# Altium integrated library OASIS_COMPONENTS.IntLib: 56 symbols
Pins are listed as number, name and electrical type; pins without a type are passive.

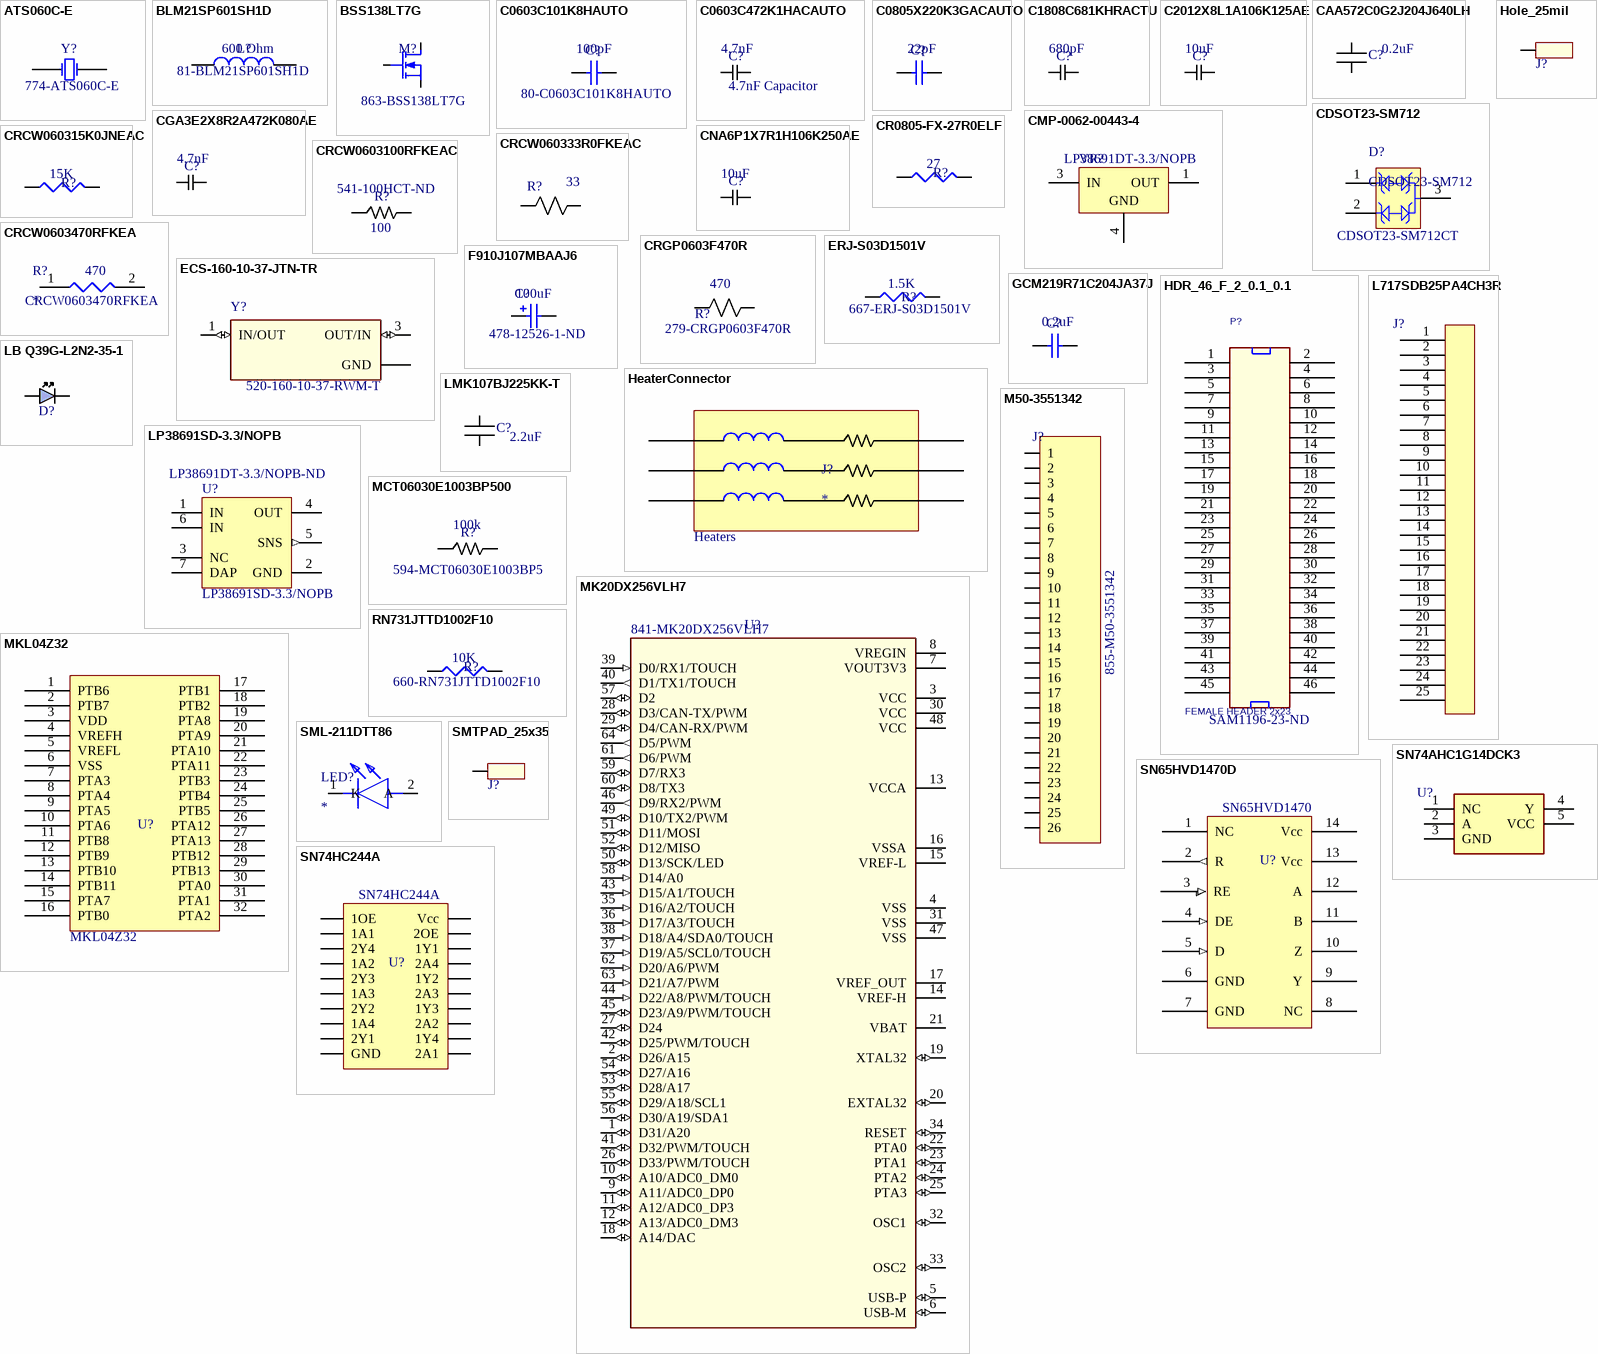
[diagram p0: symbols ATS060C-E to SN74HC244A]

## ATS060C-E
designator Y?, comment Supplier Part Number 1: 774-ATS060C-E  (hidden comment: 6MHz crystal)
6MHz Crystal Oscillator for TUSB IC.; Published: 8-Jun-2000; LatestRevisionDate: 17-Jul-2002; LatestRevisionNote: Re-released for DXP Platform.; PackageReference: R38; Publisher: Altium Limited; PackageDescription: Crystal, Thru-Hole; 2 Leads; Body 3.1 x 8.2 mm (Dia.xH); Supplier 1: Mouser
footprint HC-49/US T/H Crystal
pins: 1 OSC1, 2 OSC2

## BLM21SP601SH1D
designator L?, comment value 600 Ohm  Supplier Part Number 1: 81-BLM21SP601SH1D  (hidden comment: Ferritde, 600 Ohm Impedence)
Ferrite Bead, 600 Ohm Impedence for TLC; Supplier 1: Mouser
simulation model Model Name (Model Description)
footprint Imperial0805_RES (Imperial 0805 Resistor)
pins: 1, 2

## BSS138LT7G
designator M?  Supplier Part Number 1: 863-BSS138LT7G  (hidden comment: BSS138LT7G)
N-MOSFET for logic level switching; Supplier 1: Mouser
footprint SOT95P245X110-3N (SOT23, 3-Leads, Body 2.92x2.45mm, Pitch 0.95mm, IPC Medium Density)
pins: 1 G, 2 S, 3 D

## C0603C101K8HAUTO
designator C?, comment value 100pF  Supplier Part Number 1: 80-C0603C101K8HAUTO  (hidden comment: 100pF Capacitor)
100pF Cap for IC Vcc Smoothing; Published: 8-Jun-2000; LatestRevisionDate: 29-May-2009; LatestRevisionNote: IPC-7351 Footprint Added.; PackageReference: C1206; Publisher: Altium Limited; PackageDescription: Chip Capacitor; Supplier 1: Mouser
simulation model CAP (Semiconductor Capacitor)
signal-integrity model Cap Semi
footprint IMPERIAL0603_Capacitor
pins: 1, 2

## C0603C472K1HACAUTO
designator C?, comment 4.7nF Capacitor  value 4.7nF
4700 pF capacitor for 48v converter emi filtering; Supplier 1: Mouser; Supplier Part Number 1: 80-C0603C472K1HAUTO
footprint IMPERIAL0603_Capacitor
pins: 1, 2

## C0805X220K3GACAUTO
designator C?, comment value 22pF  (hidden comment: 22pF capacitor)
22pF USB Filter Capacitor; Published: 8-Jun-2000; LatestRevisionDate: 29-May-2009; LatestRevisionNote: IPC-7351 Footprint Added.; PackageReference: C1206; Publisher: Altium Limited; PackageDescription: Chip Capacitor; Supplier 1: Digi-Key; Supplier Part Number 1: 399-19450-1-ND
simulation model CAP (Semiconductor Capacitor)
signal-integrity model Cap Semi
footprint IMPERIAL0805_CAPACITOR (Chip Capacitor, 2-Leads, Body 2.13x1.27mm, IPC Medium Density)
pins: 1, 2

## C1808C681KHRACTU
designator C?, comment value 680pF  (hidden comment: 680pF Cap)
680pF Cap for EMI suppresion on 5V regulator; Supplier 1: Mouser; Supplier Part Number 1: 80-C1808C681KHR
footprint Imperial1808_CAP (Imperial 1808 chip capacitor)
pins: 1, 2

## C2012X8L1A106K125AE
designator C?, comment value 10uF  (hidden comment: 10uF Capacitor)
10 uF Capacitor; Supplier Part Number: C2012X8L1A106K125AE
footprint IMPERIAL0805_CAPACITOR (Chip Capacitor, 2-Leads, Body 2.13x1.27mm, IPC Medium Density)
simulation model CAP (Default semiconductor capacitor)
pins: 1, 2

## CAA572C0G2J204J640LH
designator C?, comment value 0.2uF  (hidden comment: 0.2uF Capactor, high voltage)
0.2uF capacitor, high voltage; Supplier 1: Digi-Key; Supplier Part Number 1: 445-180360-1-ND
footprint CAA572C0G2J204J640LH (2220 Footprint for CAA572C0G2J204J640LH)
pins: 1, 2

## CDSOT23-SM712
designator D?  Other Names: CDSOT23-SM712CT
TVS Diode, 17 A Ipp, -55 to 150 degC, 3-Pin SOT23, RoHS, Tape and Reel; Manufacturer: Bourns; Catalog Drawings: CDSOT23-SM712Schematic; Current - Peak Pulse (10/1000µs): 17A(8/20µs); Voltage - Breakdown (Min): 7.5V,13.3V; Online Catalog: CDSOT23Series; Power Line Protection: No; Bidirectional Channels: 2; Type: Zener; For Use With: EVAL-CN0313-SDPZ-ND-EVALEMCRS-485CERTIFIED; Kits: PN-DESIGNKIT-22-ND-KITESD/EFTSURGEPROTECTION; Capacitance @ Frequency: 75pF@1MHz; Product Training Modules: ESDProtectionProducts; Voltage - Clamping (Max) @ Ipp: 14V,26V; Voltage - Reverse Standoff (Typ): 7V(Max),12V(Max); Related Products: ADM3485EARZ-REEL7TR-ND-ICTXRXRS-485HS3.3V8SOICADM3485EARZ-REEL7CT-ND-ICTXRXRS-485HS3.3V8SOICADM3485EARZ-REEL7DKR-ND-ICTXRXRS-485HS3.3V8SOICADM3485EARZ-ND-ICTX/RXRS-485HS3.3V8-SOICADM3485EAR-ND-ICTX/RXRS-485HS3.3V8-SOIC296-38503-5-ND-ICTXRXRS4853.3VESD14SOIC296-38501-5-ND-ICRS485TXRX3.3ESD8SOIC296-38522-5-ND-ICTXRXRS4853.3V14SOIC296-38502-5-ND-ICTXRXRS4853.3VESD14SOICADM3485EARZ-REELTR-ND-ICTXRXRS-4853.3V8SOICADM3485EARZ-REELCT-ND-ICTXRXRS-4853.3V8SOICADM3485EARZ-REELDKR-ND-ICTXRXRS-4853.3V8SOIC296-40517-2-ND-ICTXRXRS4853.3V14SOIC296-40517-1-ND-ICTXRXRS4853.3V14SOIC296-40517-6-ND-ICTXRXRS4853.3V14SOIC296-40519-2-ND-ICRS485TXRX3.3ESD8SOIC296-40519-1-ND-ICRS485TXRX3.3ESD8SOIC296-40519-6-ND-ICRS485TXRX3.3ESD8SOIC296-40524-2-ND-ICTXRXRS4853.3VESD8SOIC296-40524-1-ND-ICTXRXRS4853.3VESD8SOIC296-40524-6-ND-ICTXRXRS4853.3VESD8SOIC296-40522-2-ND-ICTXRXRS4853.3VESD14SOIC296-40522-1-ND-ICTXRXRS4853.3VESD14SOIC296-40522-6-ND-ICTXRXRS4853.3VESD14SOIC296-40529-2-ND-ICRS485TXRX3.3ESD8SOIC296-40529-1-ND-ICRS485TXRX3.3ESD8SOIC2; Power - Peak Pulse: 400W; Applications: GeneralPurpose; Supplier Device Package: SOT-23-3; Package / Case: TO-236-3,SC-59,SOT-23-3; Mounting Type: SurfaceMount; Datasheet URL: https://datasheet.ciiva.com/11193/cdsot23-sm712-11193846.pdf; Standard Package: 1; Series: -; Category: CircuitProtection; Unidirectional Channels: -; Package Description: 3-Lead Small Out-Line Transistor, Body 2.9x1.3mm, Pitch 0.95mm; Family: TVS-Diodes; Datasheet Version: Aug-12; Manufacturer URL: http://www.bourns.com/; Operating Temperature: -55degC~150degC(TJ); Packaging: CutTape(CT)
footprint BOUR-SOT23-3_V (SOT23, 3-Leads, Body 2.9x1.3mm, Pitch 0.95mm)
pins: 1, 2, 3

## CGA3E2X8R2A472K080AE
designator C?, comment value 4.7nF  (hidden comment: 4.7nF Capacitor)
4.7nF soft terminated MLCC capacitor for 48V emi filtering; Supplier 1: Mouser; Supplier Part Number 1: 810-CGA3E2X8R2A472KA
footprint IMPERIAL0603_Capacitor
pins: 1, 2

## CMP-0062-00443-4
designator VR?, comment LP38691DT-3.3/NOPB
3.3V 500mA Low Dropout CMOS Linear Regulators Stable with Ceramic Output Capacitors, 3-pin TO-252, Pb-Free, 75 Rail; Manufacturer: Texas Instruments; CompType: LDO IC; PowerWise: Y; PackageTopMarking: NSUZXYTT*LP38691*DT-3.3; PackageDescription: TO252, Molded, Jedec, 6.8 x 6.10 x 2.30mm Body, 3 Lead, 2.28mm Pitch, Surface Mount; PackageReference: NDP0003B; ComponentLink1Description: Datasheet URL; RoHS: Y; PinCount: 3; ComponentLink1URL: http://www.ti.com/general/docs/lit/getliterature.tsp?genericPartNumber=LP38691&fileType=pdf; Code_JEDEC: TO-252-AA; High-Reliability: Y; PartNumber: LP38691DT-3.3/NOPB
footprint NDP0003B_N (Footprint not found)
pins: 1 OUT (power), 3 IN (power), 4 GND (power)

## CNA6P1X7R1H106K250AE
designator C?, comment value 10uF  (hidden comment: 10uF Capacitor)
10 uF Capacitor for EMI supression on 5V regulator; Supplier Part Number: C2012X8L1A106K125AE; Supplier 1: Mouser; Supplier Part Number 1: 810-CNA6P1X7R1H106K2
simulation model CAP (Default semiconductor capacitor)
footprint Imperial1210_Cap (Imperial 1210 MLCC Chip capacitor)
pins: 1, 2

## CR0805-FX-27R0ELF
designator R?, comment value 27  (hidden comment: 27 Ohm Resistor)
27Ohm Resitor, USB Terminating Resistor; Published: 8-Jun-2000; LatestRevisionDate: 29-May-2009; LatestRevisionNote: IPC-7351 Footprint Added.; PackageReference: J1-0603; Publisher: Altium Limited; PackageDescription: Chip Resistor; Supplier 1: Mouser; Supplier Part Number 1: 652-CR0805FX-27R0ELF
simulation model RESISTOR (Resistor)
signal-integrity model Res
footprint Imperial0805_RES (Imperial 0805 Resistor)
pins: 1, 2

## CRCW060315K0JNEAC
designator R?, comment value 15K  (hidden comment: 15KOhm Resistor)
15KOhm Resistor, for USB pull down; Published: 8-Jun-2000; LatestRevisionDate: 29-May-2009; LatestRevisionNote: IPC-7351 Footprint Added.; PackageReference: J1-0603; Publisher: Altium Limited; PackageDescription: Chip Resistor; Supplier 1: Digi-Key; Supplier Part Number 1: 541-15KGCT-ND
simulation model RESISTOR (Resistor)
signal-integrity model Res
footprint RESC2012X06N (Chip Resistor, 2-Leads, Body 2.00x1.25mm, IPC Medium Density)
footprint Imperial0603_RES (Imperial 0603 resistor footprint)
pins: 1, 2

## CRCW060333R0FKEAC
designator R?, comment value 33  (hidden comment: 33 Ohm Resistor)
33 Ohm Generic Chip Resistor; Supplier 1: Mouser; Supplier Part Number 1: 71-CRCW0603-33-E3
footprint Imperial0603_RES (Imperial 0603 resistor footprint)
pins: 1, 2

## CRCW0603100RFKEAC
designator R?  value 100  Supplier Part Number 1: 541-100HCT-ND  (hidden comment: *)
100 Ohm Resistor; Supplier 1: Digi-Key
footprint Imperial0603_RES (Imperial 0603 resistor footprint)
simulation model RES (Default semiconductor resistor)
pins: 1, 2

## CRCW0603470RFKEA
designator R?
470 Ohm resistor; Manufacturer_Name: Vishay; Manufacturer_Part_Number: CRCW0603470RFKEA; Description: Vishay CRCW Series Thick Film Surface Mount Resistor 0603 Case 470 +/-1% 0.1W +/-100ppm/C; Datasheet Link: http://www.vishay.com/docs/20035/dcrcwe3.pdf; Height: 0.5mm
footprint RESC1608X50N
pins: 1, 2
text: 470

## CRGP0603F470R
designator R?, comment value 470  Supplier Part Number 1: 279-CRGP0603F470R  (hidden comment: 470 Ohm Resistor)
470 Ohm Generic Chip Resistor; Supplier 1: Mouser
footprint Imperial0603_RES (Imperial 0603 resistor footprint)
pins: 1, 2

## ECS-160-10-37-JTN-TR
designator Y?  Supplier Part Number 1: 520-160-10-37-RWM-T  (hidden comment: ECS-160-10-37-JTN-TR)
Crystal 16MHz; MF: ECS Inc.; Package: SMD-4 ECS International; MP: ECS-160-10-37-JTN-TR; Digi-Key_Purchase_URL: https://www.digikey.com/product-detail/en/ecs-inc/ECS-160-10-37-RWM-TR/XC2119CT-ND/5875603?utm_source=snapeda&utm_medium=aggregator&utm_campaign=symbol; Digi-Key_Part_Number: XC2119CT-ND; SnapEDA_Link: https://www.snapeda.com/parts/ECS-160-10-37-RWM-TR/ECS%20Inc./view-part/?ref=snap; Value: *; Supplier 1: Mouser
footprint XTAL_ECS-160-10-37-RWM-TR
pins: 1 IN/OUT (io), 2 GND (power), 3 OUT/IN (io), 4 GND (power)

## ERJ-S03D1501V
designator R?, comment value 1.5K  Supplier Part Number 1: 667-ERJ-S03D1501V  (hidden comment: 1.5KOhm Resistor)
1.5KOhm Resistor, for USB pull up; Published: 8-Jun-2000; LatestRevisionDate: 29-May-2009; LatestRevisionNote: IPC-7351 Footprint Added.; PackageReference: J1-0603; Publisher: Altium Limited; PackageDescription: Chip Resistor; Supplier 1: Mouser
simulation model RESISTOR (Resistor)
signal-integrity model Res
footprint Imperial0603_RES (Imperial 0603 resistor footprint)
pins: 1, 2

## F910J107MBAAJ6
designator C?  value 100uF  Supplier Part Number 1: 478-12526-1-ND
100uF, USB Power smoothing capacitor, tantalium, low ESR; Published: 8-Jun-2000; LatestRevisionDate: 29-May-2009; LatestRevisionNote: IPC-7351 Footprint Added.; PackageReference: C0805; Publisher: Altium Limited; PackageDescription: Chip Capacitor; Supplier 1: Digi-Key
simulation model CAP (Capacitor)
signal-integrity model Cap Pol
footprint POLAR_CAP_SMD_EIA2010 (Polarized SMT capacitor, Imperial 2010 footprint)
pins: 1, 2
1 alternate drawing of the same symbol

## GCM219R71C204JA37J
designator C?, comment value 0.2uF  (hidden comment: 0.2uF Capacitor)
Published: 8-Jun-2000; LatestRevisionDate: 29-May-2009; LatestRevisionNote: IPC-7351 Footprint Added.; PackageReference: C1206; Publisher: Altium Limited; PackageDescription: Chip Capacitor; Supplier 1: Mouser; Supplier Part Number 1: 81-GCM219R71C204JA7J
simulation model CAP (Semiconductor Capacitor)
signal-integrity model Cap Semi
footprint IMPERIAL0805_CAPACITOR (Chip Capacitor, 2-Leads, Body 2.13x1.27mm, IPC Medium Density)
pins: 1, 2

## HDR_46_F_2_0.1_0.1
designator P?, comment FEMALE HEADER 2x23  Supplier Part Number 1: SAM1196-23-ND
2x23 Female Pin header, 2.54mm, gold plated; Manufacturer: Sullins Connector Solutions; Manufacturer Part Number: PPPC232LFBN-RC; Number of Positions: 46; Number of Positions Loaded: All; Pitch: 0.100" (2.54mm); RoHS: RoHS Compliant; Category: Connectors, Interconnects; Stock 1: 750; Pricing 1: 1=2.75, 10=2.325, 25=2.2196, 50=2.0084, 100=1.7969, 250=1.58552, 500=1.4798, 1000=1.3741, 2500=1.32125 (USD); Connector Type: Header; Contact Type: Female Socket; Number of Rows: 2; Row Spacing: 0.100" (2.54mm); Mounting Type: Through Hole; Termination: Solder; Fastening Type: -; Features: -; Contact Finish: Gold; Contact Finish Thickness: Flash; Color: Black; Packaging: Bulk; ComponentLink1URL: http://www.sullinscorp.com/drawings/78_P(N)PxCxxxLFBN-RC,_10492-G.pdf; ComponentLink1Description: http://www.sullinscorp.com/drawings/78_P(N)PxCxxxLFBN-RC,_10492-G.pdf; Supplier 1: Digi-Key
footprint HEADER23X2
footprint MAJOR-TSHC-123-D-03_V (CONN, 46-Leads, Body 58.42x5mm, Pitch 2.54mm)
pins: 1, 2 26, 3 2, 4 27, 5 3, 6 28, 7 4, 8 29, 9 5, 10 30, 11 6, 12 31, 13 7, 14 32, 15 8, 16 33, 17 9, 18 34, 19 10, 20 35, 21 11, 22 36, 23 12, 24 37, 25 13, 26 38, 27 14, 28 39, 29 15, 30 40, 31 16, 32 41, 33 17, 34 42, 35 18, 36 43, 37 19, 38 44, 39 20, 40 45, 41 21, 42 46, 43 22, 44 47, 45 23, 46 48

## HeaterConnector
designator J?
Symbolic schematic symbol showing the inductance and resitance of the heaters
footprint MOLEX 6x1 latch header (Single row, 6 position pin header with positive latch)
pins: 1, 2, 3, 4, 5, 6
text: Heaters

## Hole_25mil
designator J?  (value not drawn)
40 mil solder pad - 25 mil hole; Value: DNI
footprint PAD_40x25 (Single through-hole solder pad)
pins: 1 PIN

## L717SDB25PA4CH3R
designator J?, comment DB-25 Socket for Rover connection  (value not drawn)
footprint DB-25_Standard_Density (Right angle DB-25 standard density connector)
pins: 1, 2, 3, 4, 5, 6, 7, 8, 9, 10, 11, 12, 13, 14, 15, 16, 17, 18, 19, 20, 21, 22, 23, 24, 25

## LB Q39G-L2N2-35-1
designator D?  (value not drawn)
Blue LED; Manufacturer: OSRAM Opto Semiconductors; LED Size: 1.6 mm x 0.8 mm x 0.3 mm; Luminous Intensity: 45 mcd; Viewing Angle: 155 deg; Wavelength/Color Temperature: 470 nm; Supplier: Mouser; Manufacturer Part Number: LB Q39G-L2N2-35-1; RoHS: RoHS Compliant; Category: Standard LEDs - SMD; Stock: 4594; Pricing: 1=0.324, 10=0.301, 25=0.279, 50=0.265, 100=0.240, 200=0.208, 500=0.192, 1000=0.184, 2000=0.167, 4000=0.167 (AUD); Illumination Color: Blue; Package / Case: 0603; Packaging: Reel; Maximum Operating Temperature: + 85 C; Minimum Operating Temperature: - 40 C; Product Category: Standard LED - Surface Mount; Standard Pack Qty: 16000; RoHS - Mouser: Y; Minimum Order Quantity: 1; Reeling: True; ComponentLink1URL: http://www.mouser.com/ds/2/311/B_LT_Q39G-62407.pdf; ComponentLink1Description: Datasheet; Supplier Part Number: 720-LBQ39GL2N2351; Supplier 1: Mouser; Supplier Part Number 1: 720-LBQ39GL2N2351
footprint LBQ39G (Osram Chip LED)
pins: 1 A, 2 K

## LMK107BJ225KK-T
designator C?, comment value 2.2uF  (hidden comment: 2.2uF Capacitor)
2.2uF Capacitor, Non Polarized Chip Cap; Supplier 1: Mouser; Supplier Part Number 1: 963-LMK107BJ225KK-T
footprint IMPERIAL0603_Capacitor
pins: 1, 2

## LP38691SD-3.3/NOPB
designator U?  Supplier Part Number 1: LP38691DT-3.3/NOPB-ND
500mA Low Dropout CMOS Linear Regulators Stable with Ceramic Output Capacitors, 6-pin LLP, Pb-Free, 1000 Reel; Manufacturer: National Semiconductor; PackageTopMarking: ZXYTT*L120B; PowerWise: Y; CompType: LDO IC; DatasheetVersion: Jun-2011; PackageVersion: revA, Jul-2003; PackageReference: SDE06A; PackageDescription: LLP, Plastic, Dual, 3 x 3 x 0.8mm Body, 6 Lead, 0.95mm Pitch, No Pullback; PartNumber: LP38691SD-3.3/NOPB; RoHS: Y; PinCount: 6; High-Reliability: Y; ComponentLink1Description: Manufacturer URL; ComponentLink1URL: http://www.national.com/; ComponentLink2Description: LP38691 Datasheet; ComponentLink2URL: http://www.national.com/ds/LP/LP38691.pdf; ComponentLink3Description: LP38691 Web Page; ComponentLink3URL: http://www.national.com/pf/LP/LP38691.html; ComponentLink4Description: SDE06A Package Page; ComponentLink4URL: http://www.national.com/packaging/folders/sde06a.html; Supplier 1: Digi-Key
footprint SDE06A_full (SON, 6-Leads, Body 3x3 mm, Pitch 0.95mm, NSC Recommended)
pins: 1 IN (power), 2 GND (power), 3 NC, 4 OUT (power), 5 SNS (out), 6 IN (power), 7 DAP (power)

## M50-3551342
designator J?  Supplier Part Number 1: 855-M50-3551342  (hidden comment: *)
26-pin ejector connector that will then connect to the DB-25 connector; Supplier 1: Mouser
footprint M50-3551342 (EJT 13x2 socket)
pins: 1, 2, 3, 4, 5, 6, 7, 8, 9, 10, 11, 12, 13, 14, 15, 16, 17, 18, 19, 20, 21, 22, 23, 24, 25, 26

## MCT06030E1003BP500
designator R?  value 100k  Supplier Part Number 1: 594-MCT06030E1003BP5  (hidden comment: *)
100 kOhm Resistor; Supplier 1: Mouser
footprint *RESC1608X55N
simulation model RES (Default semiconductor resistor)
pins: 1, 2

## MK20DX256VLH7
designator U?  Supplier Part Number 1: 841-MK20DX256VLH7  (hidden comment: MK20DX256VLH7)
MCU 32-bit Kinetis K20 ARM Cortex M4 RISC 256KB Flash 1.8V/2.5V/3.3V 64-Pin LQFP Tray; MF: NXP USA; Package: LQFP-64 Freescale Semiconductor; Price: None; MP: MK20DX256VLH7; Availability: Unavailable; SnapEDA_Link: https://www.snapeda.com/parts/MK20DX256VLH7/NXP%20USA%20Inc./view-part/?ref=snap; Value: *; Supplier 1: Mouser
footprint *QFP50P1200X1200X160-64N
pins: 1 D31/A20 (io), 2 D26/A15 (io), 3 VCC (power), 4 VSS (power), 5 USB-P (io), 6 USB-M (io), 7 VOUT3V3 (power), 8 VREGIN (power), 9 A11/ADC0_DP0 (io), 10 A10/ADC0_DM0 (io), 11 A12/ADC0_DP3 (io), 12 A13/ADC0_DM3 (io), 13 VCCA (power), 14 VREF-H (power), 15 VREF-L (power), 16 VSSA (power), 17 VREF_OUT (power), 18 A14/DAC (io), 19 XTAL32 (io), 20 EXTAL32 (io), 21 VBAT (power), 22 PTA0 (io), 23 PTA1 (io), 24 PTA2 (io), 25 PTA3 (io), 26 D33/PWM/TOUCH (io), 27 D24 (io), 28 D3/CAN-TX/PWM (io), 29 D4/CAN-RX/PWM (io), 30 VCC (power), 31 VSS (power), 32 OSC1 (io), 33 OSC2 (io), 34 RESET (io), 35 D16/A2/TOUCH (in), 36 D17/A3/TOUCH (in), 37 D19/A5/SCL0/TOUCH (in), 38 D18/A4/SDA0/TOUCH (in), 39 D0/RX1/TOUCH (in), 40 D1/TX1/TOUCH (out), 41 D32/PWM/TOUCH (io), 42 D25/PWM/TOUCH (io), 43 D15/A1/TOUCH (in), 44 D22/A8/PWM/TOUCH (in), 45 D23/A9/PWM/TOUCH (io), 46 D9/RX2/PWM (out), 47 VSS (power), 48 VCC (power), 49 D10/TX2/PWM (io), 50 D13/SCK/LED (io), 51 D11/MOSI (io), 52 D12/MISO (io), 53 D28/A17 (io), 54 D27/A16 (io), 55 D29/A18/SCL1 (io), 56 D30/A19/SDA1 (io), 57 D2 (io), 58 D14/A0 (in), 59 D7/RX3 (io), 60 D8/TX3 (io), 61 D6/PWM (out), 62 D20/A6/PWM (in), 63 D21/A7/PWM (in), 64 D5/PWM (out)

## MKL04Z32
designator U?
Bootloader chip for teensy 3.2; Part Number: MKL04Z32
footprint *QFP80P900X900X160-32N
pins: 1 PTB6, 2 PTB7, 3 VDD, 4 VREFH, 5 VREFL, 6 VSS, 7 PTA3, 8 PTA4, 9 PTA5, 10 PTA6, 11 PTB8, 12 PTB9, 13 PTB10, 14 PTB11, 15 PTA7, 16 PTB0, 17 PTB1, 18 PTB2, 19 PTA8, 20 PTA9, 21 PTA10, 22 PTA11, 23 PTB3, 24 PTB4, 25 PTB5, 26 PTA12, 27 PTA13, 28 PTB12, 29 PTB13, 30 PTA0, 31 PTA1, 32 PTA2

## RN731JTTD1002F10
designator R?, comment value 10K  Supplier Part Number 1: 660-RN731JTTD1002F10  (hidden comment: 10K Resistor)
10K resistor, Thermister Pullup Resistor; Published: 8-Jun-2000; LatestRevisionDate: 29-May-2009; LatestRevisionNote: IPC-7351 Footprint Added.; PackageReference: J1-0603; Publisher: Altium Limited; PackageDescription: Chip Resistor; Supplier 1: Mouser
simulation model RESISTOR (Resistor)
signal-integrity model Res
footprint Imperial0603_RES (Imperial 0603 resistor footprint)
pins: 1, 2

## SML-211DTT86
designator LED?
LED; Manufacturer_Name: ROHM Semiconductor; Manufacturer_Part_Number: SML-211DTT86; Description: Mini-mold Chip LED; Height: 0.9mm
footprint LEDC2012X90N
pins: 1 K, 2 A

## SMTPAD_25x35
designator J?  (value not drawn)
Value: DNI
footprint SMTPAD_25x35
pins: 1 PIN

## SN65HVD1470D
designator U?  Generic Part Number: SN65HVD1470  (hidden comment: SN65HVD1470D)
RS-422 line driver IC; Supplier 1: Digi-Key; Supplier Part Number 1: 296-40501-1-ND
footprint SOIC127P590X175-14M (SOIC, 14-Leads, Body 8.65x3.90mm, Pitch 1.27mm, IPC Low Density)
pins: 1 NC (hiz) "No Connection", 2 R (out) "Receive data Output", 3 RE (in) "Receive Enable Low", 4 DE (in) "Drive Enable High", 5 D (in) "Driver data input", 6 GND (power) "Reference Potential", 7 GND (power) "Reference Potential", 8 NC "No Connection", 9 Y "RS422 Tx+", 10 Z "RS422 Tx-", 11 B "RS422 Rx-", 12 A "RS422 Rx+", 13 Vcc "Supply", 14 Vcc (power) "Supply"

## SN74AHC1G14DCK3
designator U?, comment single gate inverter  (value not drawn)
Inverter, single gate; Manufacturer_Name: Texas Instruments; Manufacturer_Part_Number: SN74AHC1G14DCK3; Datasheet Link: https://www.arrow.com/en/products/sn74ahc1g14dck3/texas-instruments; Height: 1.1mm
footprint SOT65P210X110-5N
pins: 1 NC, 2 A, 3 GND, 4 Y, 5 VCC

## SN74HC244A
designator U?, comment IC Family: SN74HC244A  (hidden comment: Tristate buffer)
Tristate buffer for protecting the BBB during power down.; Supplier 1: Mouser; Supplier Part Number 1: 595-SN74HC244APWR
footprint SOP65P780X200-20N (SOP, 20-Leads, Body 7.20x5.30mm, Pitch 0.65mm, IPC Medium Density)
pins: 1 1OE, 2 1A1, 3 2Y4, 4 1A2, 5 2Y3, 6 1A3, 7 2Y2, 8 1A4, 9 2Y1, 10 GND, 11 2A1, 12 1Y4, 13 2A2, 14 1Y3, 15 2A3, 16 1Y2, 17 2A4, 18 1Y1, 19 2OE, 20 Vcc

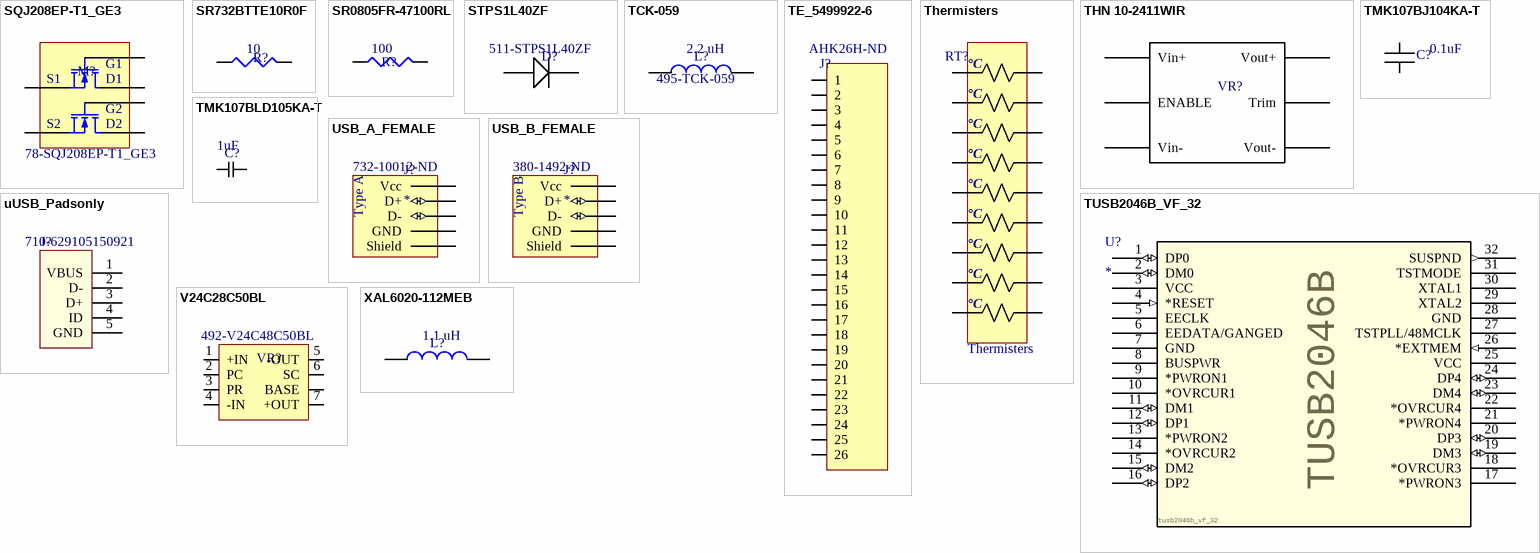
[diagram p1: symbols SQJ208EP-T1_GE3 to XAL6020-112MEB]

## SQJ208EP-T1_GE3
designator M?, comment Supplier Part Number 1: 78-SQJ208EP-T1_GE3  (hidden comment: NPN MOSFET)
Two NPN Power Transistors for heater power control; Supplier 1: Mouser
footprint PowerPAK SO-8L DUAL ASYMMETRIC
pins: 1 D1, 2 S1, 3 G1, 4 D2, 5 S2, 6 G2

## SR732BTTE10R0F
designator R?, comment value 10  (hidden comment: 10 Ohm Resistor)
10 Ohm Resistor, RS-422 shockproof resistor; Published: 8-Jun-2000; LatestRevisionDate: 29-May-2009; LatestRevisionNote: IPC-7351 Footprint Added.; PackageReference: J1-0603; Publisher: Altium Limited; PackageDescription: Chip Resistor; Supplier 1: Mouser; Supplier Part Number 1: 660-SR732BTTE10R0F
simulation model RESISTOR (Resistor)
signal-integrity model Res
footprint Imperial1206_RES (Imperial 1206 Resistor)
pins: 1, 2

## SR0805FR-47100RL
designator R?, comment value 100  (hidden comment: 100 Ohm Resistor)
100 Ohm resistor, RS422 Terminating Resistor; Published: 8-Jun-2000; LatestRevisionDate: 29-May-2009; LatestRevisionNote: IPC-7351 Footprint Added.; PackageReference: J1-0603; Publisher: Altium Limited; PackageDescription: Chip Resistor; Supplier 1: Digi-Key; Supplier Part Number 1: YAG5845CT-ND
simulation model RESISTOR (Resistor)
signal-integrity model Res
footprint Imperial0805_RES (Imperial 0805 Resistor)
pins: 1, 2

## STPS1L40ZF
designator D?  Supplier Part Number 1: 511-STPS1L40ZF  (hidden comment: STPS1L40ZF)
1A Schottky Diode; Supplier 1: Mouser
footprint *SODFL3718X108N; pin to pad 1>C 2>A
pins: 1 cathode, 2 anode

## TCK-059
designator L?  value 2.2 uH  Supplier Part Number 1: 495-TCK-059  (hidden comment: *)
2.2uH inductor; Supplier 1: Mouser
simulation model Model Name (Model Description)
footprint INDC6055X50N (Chip Inductor, 2-Leads, Body 6.00x5.50mm, IPC Medium Density)
pins: 1, 2

## TE_5499922-6
designator J?  Supplier Part Number 1: AHK26H-ND  (hidden comment: *)
AMP-LATCH Universal Headers - 26 Pos; Supplier 1: Digi-Key
footprint TE_5499922-6 (AMP-LATCH Universal Headers 26 Pos)
pins: 1, 2, 3, 4, 5, 6, 7, 8, 9, 10, 11, 12, 13, 14, 15, 16, 17, 18, 19, 20, 21, 22, 23, 24, 25, 26

## Thermisters
designator RT?, comment NTC Thermister Array  (value not drawn)
NTC Thermisters to monitor temperature of box. On PCB this will be a pin header.
footprint MOLEX 90130-1118 (9x2 male shrouded pin header)
pins: 1, 2, 3, 4, 5, 6, 7, 8, 9, 10, 11, 12, 13, 14, 15, 16, 17, 18
text: °C

## THN 10-2411WIR
designator VR?, comment 28 to 5V switching converter  (value not drawn)
28V to 5V converter; Manufacture Part No: THN 10-2411WIR; Supplier 1: Digi-Key; ComponentLink1Description: Datasheet; ComponentLink1URL: https://www.mouser.com/datasheet/2/687/thn10wir-datasheet-1695877.pdf
footprint THN 30-2411WI-A1
pins: 1 Vin+, 2 Vin-, 3 Vout+, 4 Trim, 5 Vout-, 6 ENABLE

## TMK107BJ104KA-T
designator C?, comment value 0.1uF  (hidden comment: 0.1uF Capactor)
0.1uF capacitor, Non Polarized Chip Cap; Supplier 1: Mouser; Supplier Part Number 1: 963-TMK107BJ104KA-T
footprint IMPERIAL0603_Capacitor
pins: 1, 2

## TMK107BLD105KA-T
designator C?, comment value 1uF  (hidden comment: 1 uF Capacitor)
Supplier 1: Mouser; Supplier Part Number 1: 963-TMK107BLD105KA-T
footprint IMPERIAL0603_Capacitor
pins: 1, 2

## TUSB2046B_VF_32
designator U?  Manufacturer_Part_Number: tusb2046b_vf_32  GENERIC_PART_NUMBER: TUSB2046B
USB 2.0 Hub IC; Vendor: Texas Instruments; PACKAGE_DESIGNATOR: VF; PIN_COUNT: 32; FAMILY_NAME: USB HUB CONTROLLER; INDUSTRY_STD_PKG_TYPE: LQFP; Manufacturer: Texas Instruments; Datasheet_URL: http://www.ti.com/lit/gpn/TUSB2046B; Value: Value; Type: Type; RefDes: RefDes; Supplier 1: Digi-Key; Supplier Part Number 1: 296-48218-1-ND
footprint VF32
footprint TQFP80P900X900X160-32N (TQFP, 32-Leads, Body 7.00x7.00mm, Pitch 0.80mm, IPC Medium Density)
pins: 1 DP0 (io), 2 DM0 (io), 3 VCC (power), 4 *RESET (in), 5 EECLK, 6 EEDATA/GANGED, 7 GND (power), 8 BUSPWR, 9 *PWRON1, 10 *OVRCUR1, 11 DM1 (io), 12 DP1 (io), 13 *PWRON2, 14 *OVRCUR2, 15 DM2 (io), 16 DP2 (io), 17 *PWRON3, 18 *OVRCUR3, 19 DM3 (io), 20 DP3 (io), 21 *PWRON4, 22 *OVRCUR4, 23 DM4 (io), 24 DP4 (io), 25 VCC (power), 26 *EXTMEM (in), 27 TSTPLL/48MCLK, 28 GND (power), 29 XTAL2, 30 XTAL1, 31 TSTMODE, 32 SUSPND (out)

## USB_A_FEMALE
designator J?  Supplier Part Number 1: 732-10012-ND  USB Type: Type A
USB Type A female connector.; Supplier 1: Digi-Key
footprint USB_A_FEMALE_SINGLE (A horizontally oriented, USB type A receptacle.)
pins: D+ (io), D- (io), GND, Shield, Vcc (power)

## USB_B_FEMALE
designator J?  Supplier Part Number 1: 380-1492-ND  USB Type: Type B
USB Type B female connector.; Supplier 1: Digi-Key
footprint USB_B_FEMALE_RT (USB Type B female receptacle, right angle)
pins: D+ (io), D- (io), GND, Shield, Vcc (power)

## uUSB_Padsonly
designator J?, comment Supplier Part Number 1: 710-629105150921  (hidden comment: uUSB Padsonly)
Micro USB Connection - solder pads only; Value: DNI; Supplier 1: Mouser
footprint uUSB_Padsonly (MicroUSB Connection - through hole pads only)
pins: 1 VBUS, 2 D-, 3 D+, 4 ID, 5 GND

## V24C28C50BL
designator VR?  Supplier Part Number 1: 492-V24C48C50BL  (hidden comment: *)
28V to 48V converter, 50W; Supplier 1: Mouser
footprint V24C48C50BL_tht (THT V24C48C50BL footprint)
pins: 1 +IN, 2 PC, 3 PR, 4 -IN, 5 -OUT, 6 SC, 7 +OUT, 8 BASE "Connection to aluminum baseplate"

## XAL6020-112MEB
designator L?, comment value 1.1 uH  (hidden comment: 1.1uH Inductor)
1.1uH inductor for EMI suppresion on 5V regulator; Supplier 1: Mouser; Supplier Part Number 1: 994-XAL6020-112MEB
simulation model Model Name (Model Description)
footprint XAL6020-112ME_ (Precision Wire Wound Inductor, 2-Leads, Body 6.36x6.56mm, IPC Medium Density)
pins: 1, 2